# Altium schematic symbol library 5560IN2T.Schlib: 1 symbol
Pins are listed as number, name and electrical type; pins without a type are passive.

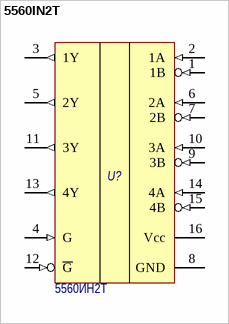
[diagram p0: symbol 5560IN2T]

## 5560IN2T
designator U?  Наименование: 5560ИН2Т  (hidden comment: 5560IN2T)
4-разрядный дифференциальный магистральный приемник последовательных данных по стандарту LVDS; Потребление, Вт: 0,1; Назначение: 4-разрядный дифференциальный магистральный приемник последовательных данных по стандарту LVDS
footprint 402.16-32
pins: 1 1B (in), 2 1A (in), 3 1Y (out), 4 G (in), 5 2Y (out), 6 2A (in), 7 2B (in), 8 GND (power), 9 3B (in), 10 3A (in), 11 3Y (out), 12 ~{G} (in), 13 4Y (out), 14 4A (in), 15 4B (in), 16 Vcc (power)